# Altium footprint library k60底座.PcbLib: 1 footprints
Each footprint in its own frame and in the unit in brackets; x right, y up, seen from the top. Pads: shape width x height; smd on the part's side, far side on the other; paste and mask are expansions set on the pad; w line width, h text height; cw(c..) or ccw(c..) is an arc to the next point about the centre after c.
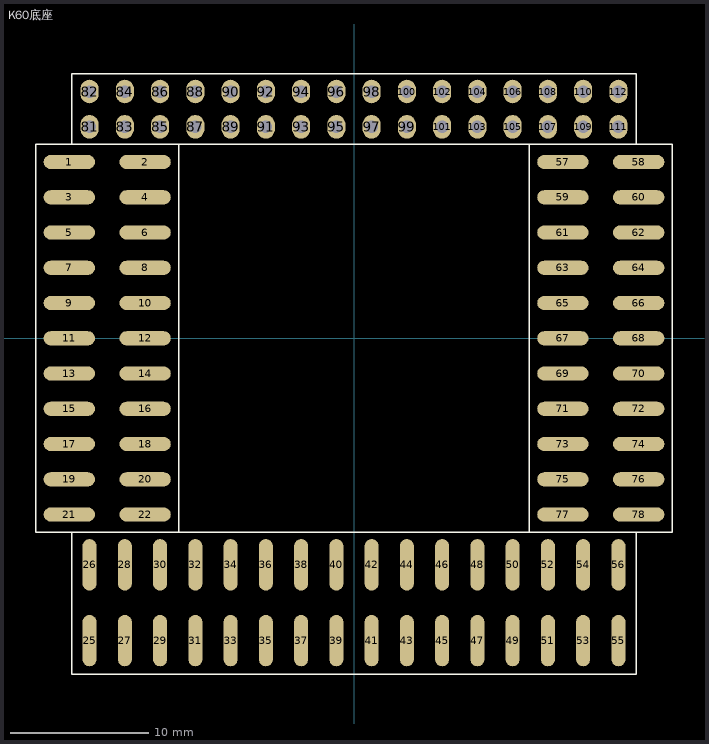
[diagram p0: the footprint, top view; thin cyan lines are the x and y axes]

## K60底座 [mm]
pads (116):
  round 0 on Mech1: 1(-21.803,-13.218) 1(-21.803,-10.678) 1(4.328,-23.073) 1(6.868,-23.073) 1(13.757,-13.218) 1(13.757,-10.678) 1(17.028,-23.073) 1(19.568,-23.073)
  oval 3.7x1.02 smd: 1(-20.511,12.7) 2(-15.05,12.7) 3(-20.511,10.16) 4(-15.05,10.16) 5(-20.511,7.62) 6(-15.05,7.62) 7(-20.511,5.08) 8(-15.05,5.08) 9(-20.511,2.54) 10(-15.05,2.54) 11(-20.511,0) 12(-15.05,0) 13(-20.511,-2.54) 14(-15.05,-2.54) 15(-20.511,-5.08) 16(-15.05,-5.08) 17(-20.511,-7.62) 18(-15.05,-7.62) 19(-20.511,-10.16) 20(-15.05,-10.16) 21(-20.511,-12.7) 22(-15.05,-12.7) 57(15.05,12.7) 58(20.511,12.7) 59(15.05,10.16) 60(20.511,10.16) 61(15.05,7.62) 62(20.511,7.62) 63(15.05,5.08) 64(20.511,5.08) 65(15.05,2.54) 66(20.511,2.54) 67(15.05,0) 68(20.511,0) 69(15.05,-2.54) 70(20.511,-2.54) 71(15.05,-5.08) 72(20.511,-5.08) 73(15.05,-7.62) 74(20.511,-7.62) 75(15.05,-10.16) 76(20.511,-10.16) 77(15.05,-12.7) 78(20.511,-12.7)
  oval 1.02x3.7 smd: 25(-19.05,-21.78) 26(-19.05,-16.319) 27(-16.51,-21.78) 28(-16.51,-16.319) 29(-13.97,-21.78) 30(-13.97,-16.319) 31(-11.43,-21.78) 32(-11.43,-16.319) 33(-8.89,-21.78) 34(-8.89,-16.319) 35(-6.35,-21.78) 36(-6.35,-16.319) 37(-3.81,-21.78) 38(-3.81,-16.319) 39(-1.27,-21.78) 40(-1.27,-16.319) 41(1.27,-21.78) 42(1.27,-16.319) 43(3.81,-21.78) 44(3.81,-16.319) 45(6.35,-21.78) 46(6.35,-16.319) 47(8.89,-21.78) 48(8.89,-16.319) 49(11.43,-21.78) 50(11.43,-16.319) 51(13.97,-21.78) 52(13.97,-16.319) 53(16.51,-21.78) 54(16.51,-16.319) 55(19.05,-21.78) 56(19.05,-16.319)
  oval 1.3x1.7 hole 0.9: 81(-19.05,15.24) 82(-19.05,17.78) 83(-16.51,15.24) 84(-16.51,17.78) 85(-13.97,15.24) 86(-13.97,17.78) 87(-11.43,15.24) 88(-11.43,17.78) 89(-8.89,15.24) 90(-8.89,17.78) 91(-6.35,15.24) 92(-6.35,17.78) 93(-3.81,15.24) 94(-3.81,17.78) 95(-1.27,15.24) 96(-1.27,17.78) 97(1.27,15.24) 98(1.27,17.78) 99(3.81,15.24) 100(3.81,17.78) 101(6.35,15.24) 102(6.35,17.78) 103(8.89,15.24) 104(8.89,17.78) 105(11.43,15.24) 106(11.43,17.78) 107(13.97,15.24) 108(13.97,17.78) 109(16.51,15.24) 110(16.51,17.78) 111(19.05,15.24) 112(19.05,17.78)
Top Overlay:
  lines w0.102: -22.924,-13.97 -12.636,-13.97 -12.636,-11.303 -12.636,13.97 -22.924,13.97 -22.924,-11.303 -22.924,-13.97 ; -20.32,-24.194 4.953,-24.194 7.493,-24.194 17.653,-24.194 20.32,-24.194 20.32,-13.97 17.653,-13.97 7.493,-13.97 4.953,-13.97 -20.32,-13.97 -20.32,-24.194 ; -20.32,13.97 -20.32,19.05 20.32,19.05 20.32,13.97 -20.32,13.97 ; 12.636,-13.97 12.636,-11.303 12.636,13.97 22.924,13.97 22.924,-11.303 22.924,-13.97 12.636,-13.97
3D body: height 4.6, standoff 0, extent -20.32,13.97 20.32,19.05
3D body: height 4.6, standoff 0, extent 15.24,-13.97 20.32,13.97
3D body: height 4.6, standoff 0, extent -20.32,-21.59 20.32,-16.51
3D body: height 4.6, standoff 0, extent -20.32,-13.97 -15.24,13.97